# EAGLE library part PC-XX-XXXX (library DAC)
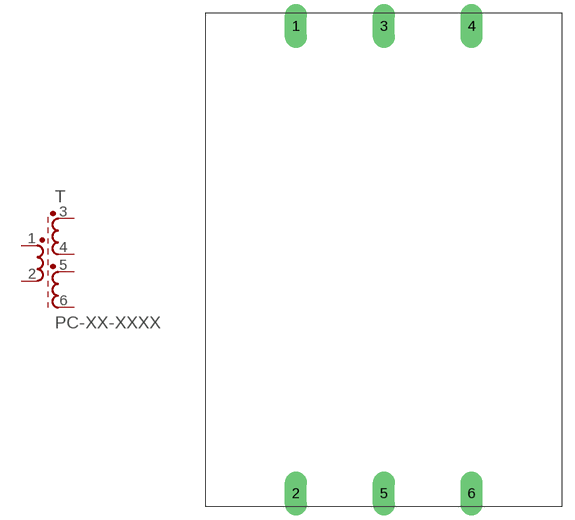
[diagram p25: symbol with the pads of PCBXFR6PIN; footprint PCBXFR6PIN]

Designator prefix T

## PC-XX-XXXX  [PCBXFR6PIN]
1  1  pas
2  2  pas
3  3  pas
4  4  pas
5  5  pas
6  6  pas

## Footprint PCBXFR6PIN (pad centres in mm)
drill 1.1 pad 2.54 long: 1 -10.16,27.051; 2 -10.16,-27.051; 3 0,27.051; 4 10.16,27.051; 5 0,-27.051; 6 10.16,-27.051